# Altium schematic symbol library ADS112C04IPW.SchLib: 1 symbol
Pins are listed as number, name and electrical type; pins without a type are passive.

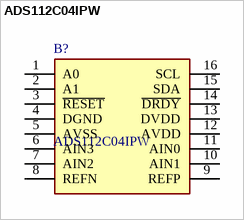
[diagram p0: symbol ADS112C04IPW]

## ADS112C04IPW
designator B?
Analog to Digital Converters - ADC 16-Bit 2kSPS 4-Ch Low-Power Delta-Sigma ADC With PGA, Voltage Reference, IDACs, and I2C Interface 16-TSSOP -40 to 125; Manufacturer_Name: Texas Instruments; Geometry.Height: 1.2mm; Mouser Part Number: 595-ADS112C04IPW; Mouser Price/Stock: https://www.mouser.co.uk/ProductDetail/Texas-Instruments/ADS112C04IPW?qs=55YtniHzbhAHI%252BSH3qtesg%3D%3D; Manufacturer_Part_Number: ADS112C04IPW; Datasheet Link: https://datasheet.datasheetarchive.com/originals/distributors/DKDS41/DSANUWW0029291.pdf
footprint SOP65P640X120-16N
pins: 1 A0, 2 A1, 3 ~{RESET}, 4 DGND, 5 AVSS, 6 AIN3, 7 AIN2, 8 REFN, 9 REFP, 10 AIN1, 11 AIN0, 12 AVDD, 13 DVDD, 14 ~{DRDY}, 15 SDA, 16 SCL